# Altium footprint library PcbLib1.PcbLib: 1 footprints
Each footprint in its own frame and in the unit in brackets; x right, y up, seen from the top. Pads: shape width x height; smd on the part's side, far side on the other; paste and mask are expansions set on the pad; w line width, h text height; cw(c..) or ccw(c..) is an arc to the next point about the centre after c.
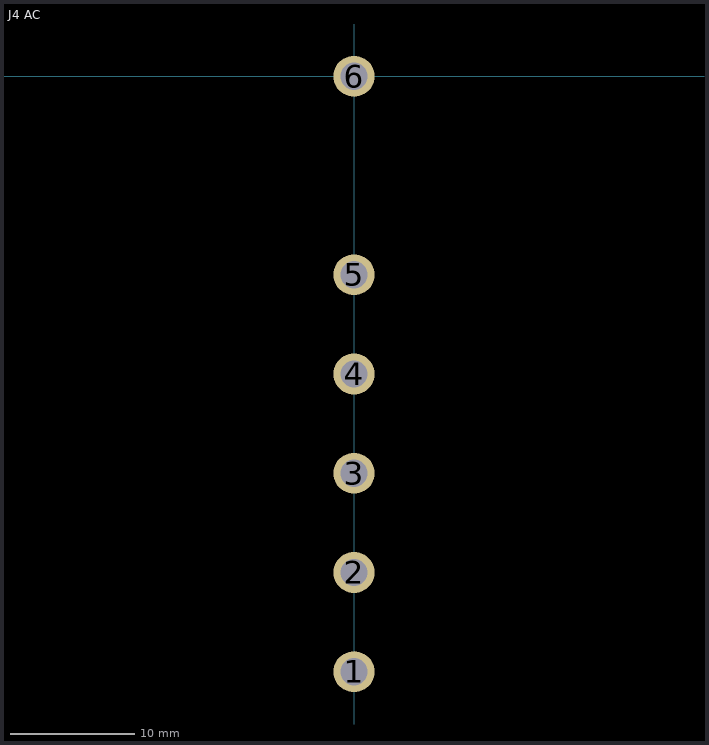
[diagram p0: the footprint, top view; thin cyan lines are the x and y axes]

## J4 AC [mm]
pads (6):
  round 3.3 hole 2.2: 1(0,-48) 2(0,-40) 3(0,-32) 4(0,-24) 5(0,-16) 6(0,0)